# EAGLE library part OV7670CAMFIXED (library Me433lib)
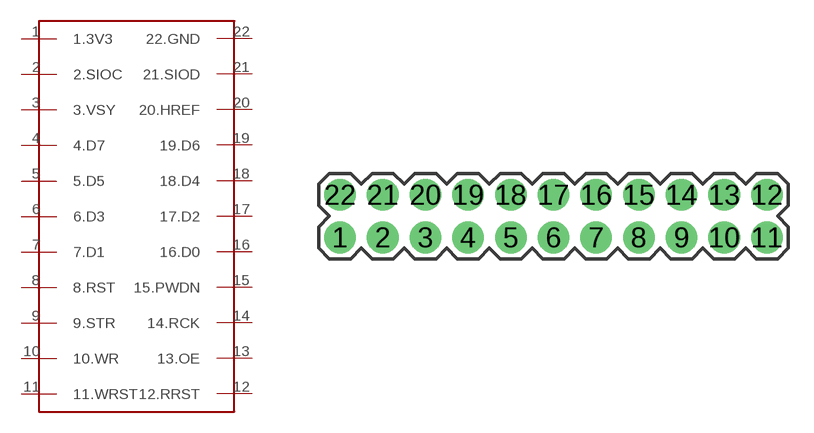
[diagram p14: symbol with the pads of 1X02CAM; footprint 1X02CAM]

Designator prefix -

## OV7670CAMFIXED  [1X02CAM]
1  1.3V3
2  2.SIOC
3  3.VSY
4  4.D7
5  5.D5
6  6.D3
7  7.D1
8  8.RST
9  9.STR
10  10.WR
11  11.WRST
12  12.RRST
13  13.OE
14  14.RCK
15  15.PWDN
16  16.D0
17  17.D2
18  18.D4
19  19.D6
20  20.HREF
21  21.SIOD
22  22.GND

## Footprint 1X02CAM (pad centres in mm)
Plated Through Hole Specifications: Pin count:2 Pin pitch:0.1" Example device(s): CONN_02
drill 1.016 pad 1.88: 1 0,0; 2 2.54,0; 3 5.08,0; 4 7.62,0; 5 10.16,0; 6 12.7,0; 7 15.24,0; 8 17.78,0; 9 20.32,0; 10 22.86,0; 11 25.4,0; 12 25.4,2.54; 13 22.86,2.54; 14 20.32,2.54; 15 17.78,2.54; 16 15.24,2.54; 17 12.7,2.54; 18 10.16,2.54; 19 7.62,2.54; 20 5.08,2.54; 21 2.54,2.54; 22 0,2.54